# Altium schematic symbol library STN3NF06L.SchLib: 1 symbol
Pins are listed as number, name and electrical type; pins without a type are passive.

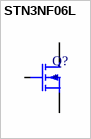
[diagram p0: symbol STN3NF06L]

## STN3NF06L
designator Q?
pins: 1 G, 2 D, 3 S